# Altium schematic symbol library Bike_Light_PCB_2017.SchLib: 12 symbols
Pins are listed as number, name and electrical type; pins without a type are passive.

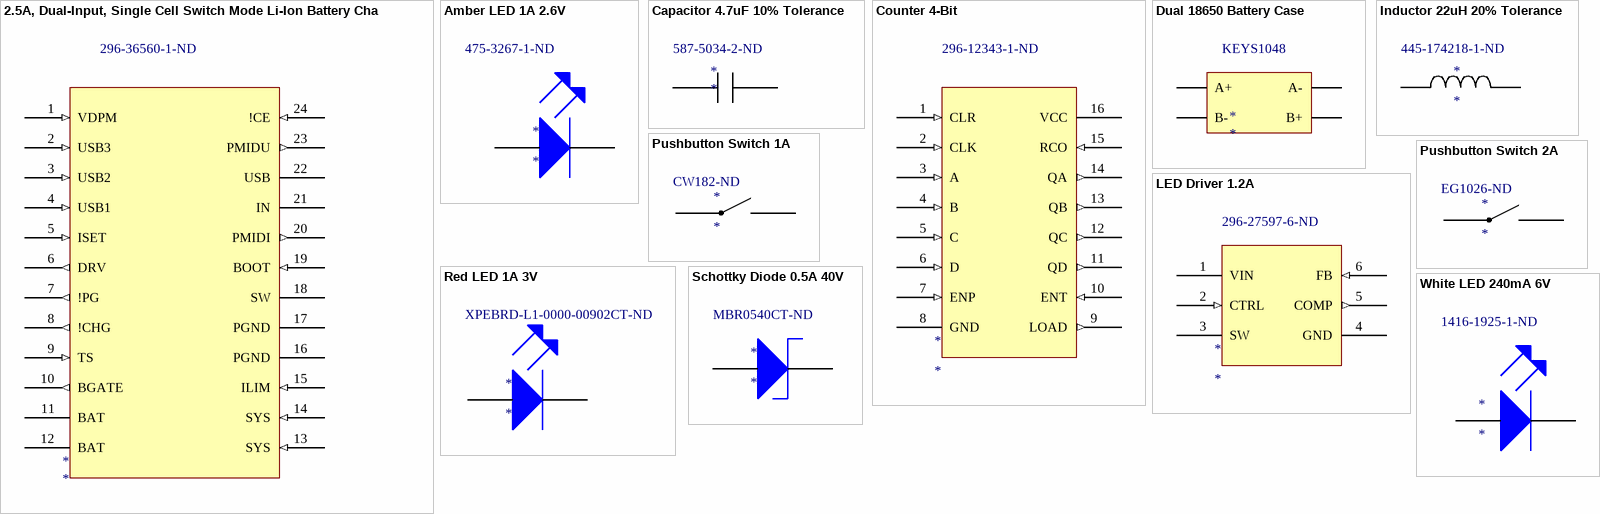
[diagram p0: symbols 2.5A, Dual-Input, Single Cell Switch Mode Li-Ion Battery Charger to White LED 240mA 6V]

## 2.5A, Dual-Input, Single Cell Switch Mode Li-Ion Battery Charger
designator *  Supplier Part Number 1: 296-36560-1-ND
Supplier 1: Digi-Key
pins: 1 VDPM (in), 2 USB3 (in), 3 USB2 (in), 4 USB1 (in), 5 ISET (in), 6 DRV (out), 7 !PG (out), 8 !CHG (out), 9 TS (in), 10 BGATE (out), 11 BAT (power), 12 BAT (power), 13 SYS (in), 14 SYS (in), 15 ILIM (in), 16 PGND (power), 17 PGND (power), 18 SW (power), 19 BOOT (in), 20 PMIDI (out), 21 IN (power), 22 USB (power), 23 PMIDU (out), 24 !CE (in)

## Amber LED 1A 2.6V
designator *  Supplier Part Number 1: 475-3267-1-ND
Supplier 1: Digi-Key
pins: 2, 3

## Capacitor 4.7uF 10% Tolerance
designator *  Supplier Part Number 1: 587-5034-2-ND
Supplier 1: Digi-Key
pins: 0, 1

## Counter 4-Bit
designator *  Supplier Part Number 1: 296-12343-1-ND
Supplier 1: Digi-Key
pins: 1 CLR (in), 2 CLK (in), 3 A (in), 4 B (in), 5 C (in), 6 D (in), 7 ENP (in), 8 GND (power), 9 LOAD (out), 10 ENT (in), 11 QD (out), 12 QC (out), 13 QB (out), 14 QA (out), 15 RCO (in), 16 VCC (power)

## Dual 18650 Battery Case
designator *  Supplier Part Number 1: KEYS1048
Supplier 1: TME
pins: ?1 A-, ?2 B+, ?3 A+, ?4 B-

## Inductor 22uH 20% Tolerance
designator *  Supplier Part Number 1: 445-174218-1-ND
Supplier 1: Digi-Key
pins: 28, 29

## LED Driver 1.2A
designator *  Supplier Part Number 1: 296-27597-6-ND
Supplier 1: Digi-Key
pins: 1 VIN (power), 2 CTRL (in), 3 SW (power), 4 GND (power), 5 COMP (out), 6 FB (in)

## Pushbutton Switch 1A
designator *  Supplier Part Number 1: CW182-ND
Supplier 1: Digi-Key
pins: 10, 11

## Pushbutton Switch 2A
designator *  Supplier Part Number 1: EG1026-ND
Supplier 1: Digi-Key
pins: 10, 11

## Red LED 1A 3V
designator *  Supplier Part Number 1: XPEBRD-L1-0000-00902CT-ND
Supplier 1: Digi-Key
pins: 2, 3

## Schottky Diode 0.5A 40V
designator *  Supplier Part Number 1: MBR0540CT-ND
Supplier 1: Digi-Key
pins: 2, 3

## White LED 240mA 6V
designator *  Supplier Part Number 1: 1416-1925-1-ND
Supplier 1: Digi-Key
pins: 2, 3